# Altium integrated library NSC Interface.IntLib: 481 symbols (part 6 of 16)
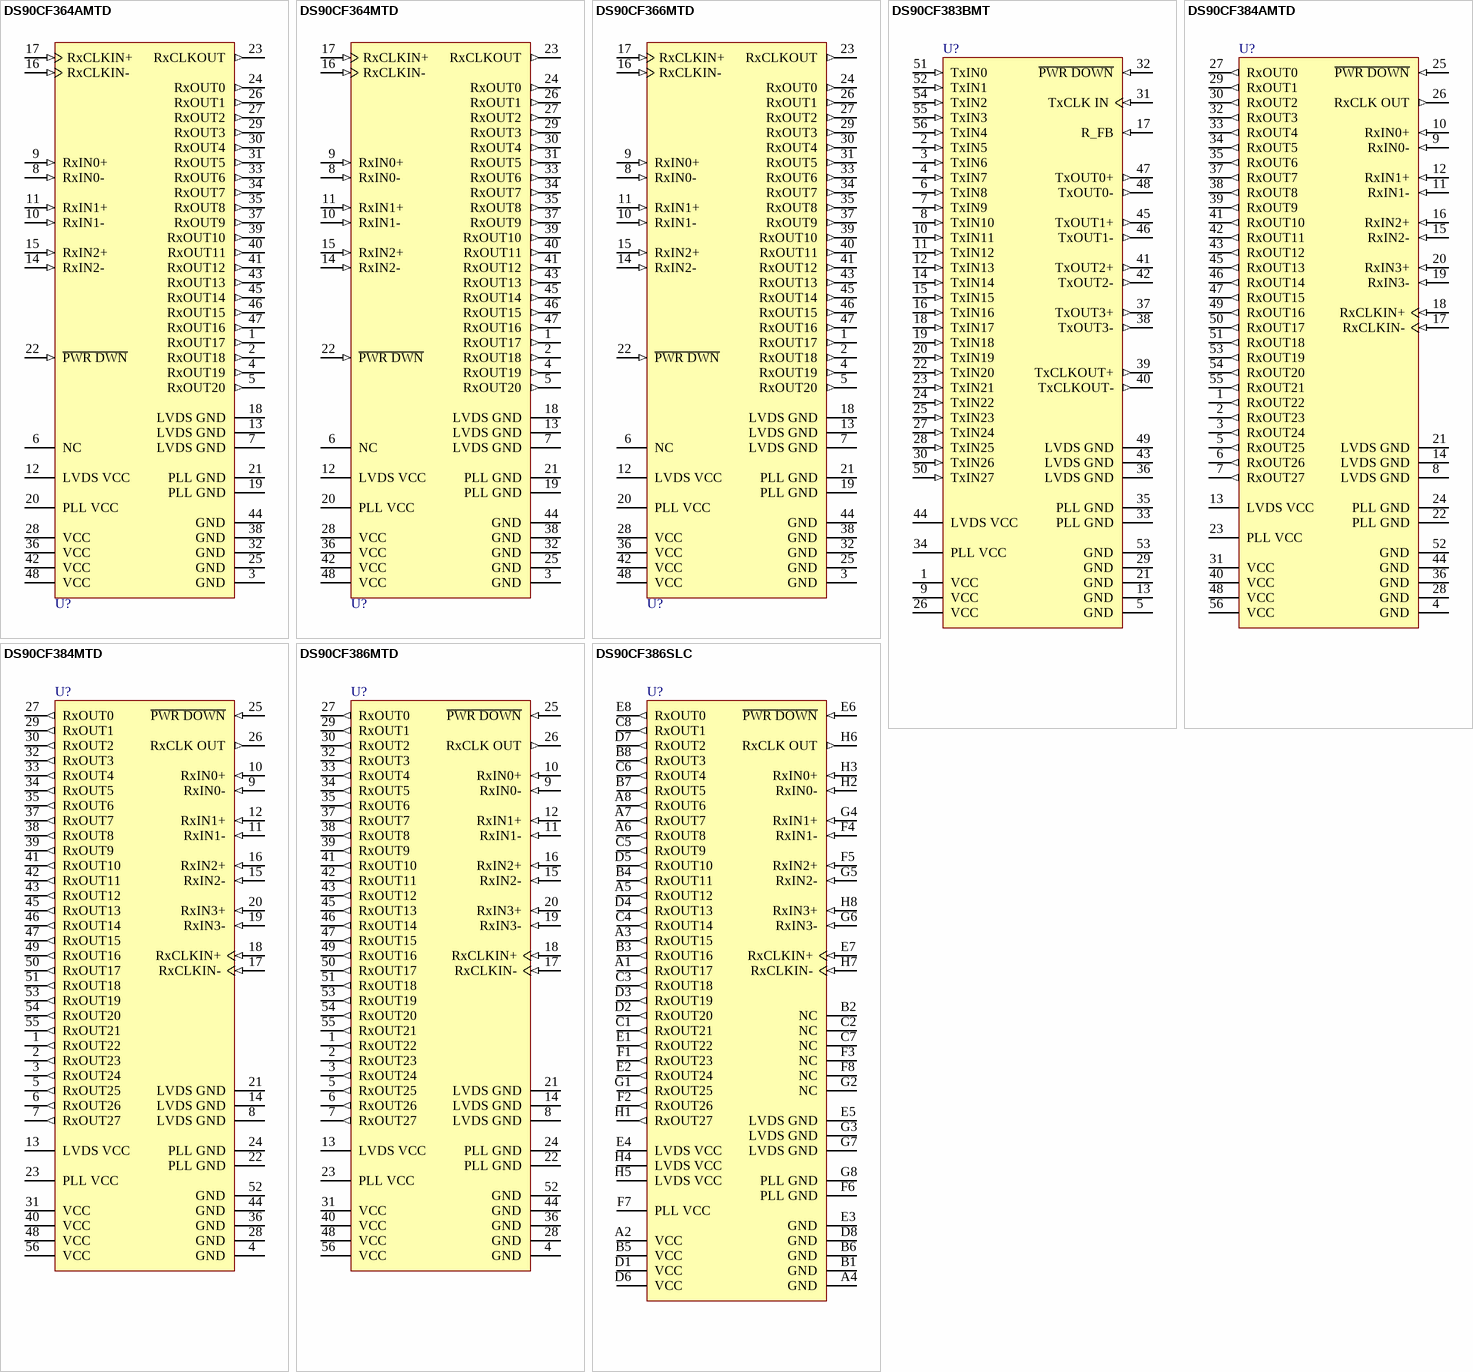
[diagram p45: symbols DS90CF364AMTD to DS90CF386SLC]

## DS90CF384AMTD
designator U?
+3.3V LVDS Receiver 24-Bit Flat Panel Display (FPD) Link - 65 MHz; PartNumber: DS90CF384AMTD; Manufacturer: National Semiconductor; CompType: Interface IC; PackageTopMarking: NS2ZXYTT*DS90CF384AMTD*BBBBB; Published: 4-Dec-2008; DatasheetVersion: Jul-2007; PackageVersion: revD, Apr-2003; PackageReference: MTD56; Publisher: Altium Limited; PackageDescription: Molded TSSOP, Jedec, 14 x 6.1 x 0.9mm Body, 56 Lead, 0.50mm Pitch; RoHS: O; PinCount: 56; DigiKeyPartNumber: DS90CF384AMTD-ND; Code_IPC: TSSOP50P810-56; ComponentLink1Description: DS90CF384A Datasheet; ComponentLink1URL: http://www.national.com/ds/DS/DS90CF384A.pdf; ComponentLink2Description: DS90CF384A Web Page; ComponentLink2URL: http://www.national.com/pf/DS/DS90CF384A.html; ComponentLink3Description: MTD56 Package Page; ComponentLink3URL: http://www.national.com/packaging/folders/mtd56.html
footprint MTD56_N (TSSOP, 56-Leads, Body 14x6.1mm, Pitch 0.5mm, IPC Medium Density)
footprint MTD56_L (TSSOP, 56-Leads, Body 14x6.1mm, Pitch 0.5mm, IPC High Density)
footprint MTD56_M (TSSOP, 56-Leads, Body 14x6.1mm, Pitch 0.5mm, IPC Low Density)
pins: 1 RxOUT22 (out), 2 RxOUT23 (out), 3 RxOUT24 (out), 4 GND (power), 5 RxOUT25 (out), 6 RxOUT26 (out), 7 RxOUT27 (out), 8 LVDS GND (power), 9 RxIN0- (in), 10 RxIN0+ (in), 11 RxIN1- (in), 12 RxIN1+ (in), 13 LVDS VCC (power), 14 LVDS GND (power), 15 RxIN2- (in), 16 RxIN2+ (in), 17 RxCLKIN- (in), 18 RxCLKIN+ (in), 19 RxIN3- (in), 20 RxIN3+ (in), 21 LVDS GND (power), 22 PLL GND (power), 23 PLL VCC (power), 24 PLL GND (power), 25 ~{PWR DOWN} (in), 26 RxCLK OUT (out), 27 RxOUT0 (out), 28 GND (power), 29 RxOUT1 (out), 30 RxOUT2 (out), 31 VCC (power), 32 RxOUT3 (out), 33 RxOUT4 (out), 34 RxOUT5 (out), 35 RxOUT6 (out), 36 GND (power), 37 RxOUT7 (out), 38 RxOUT8 (out), 39 RxOUT9 (out), 40 VCC (power), 41 RxOUT10 (out), 42 RxOUT11 (out), 43 RxOUT12 (out), 44 GND (power), 45 RxOUT13 (out), 46 RxOUT14 (out), 47 RxOUT15 (out), 48 VCC (power), 49 RxOUT16 (out), 50 RxOUT17 (out), 51 RxOUT18 (out), 52 GND (power), 53 RxOUT19 (out), 54 RxOUT20 (out), 55 RxOUT21 (out), 56 VCC (power)

## DS90CF384MTD
designator U?
+3.3V LVDS Receiver 24-Bit Flat Panel Display (FPD) Link - 65 MHz; PartNumber: DS90CF384MTD; Manufacturer: National Semiconductor; CompType: Interface IC; PackageTopMarking: NS2ZXYTT*DS90CF384MTD*BBBBB; Published: 4-Dec-2008; DatasheetVersion: Nov-2000; PackageVersion: revD, Apr-2003; PackageReference: MTD56; Publisher: Altium Limited; PackageDescription: Molded TSSOP, Jedec, 14 x 6.1 x 0.9mm Body, 56 Lead, 0.50mm Pitch; RoHS: O; PinCount: 56; DigiKeyPartNumber: DS90CF384MTD-ND; Code_IPC: TSSOP50P810-56; ComponentLink1Description: DS90CF384 Datasheet; ComponentLink1URL: http://www.national.com/ds/DS/DS90CF384.pdf; ComponentLink2Description: DS90CF384 Web Page; ComponentLink2URL: http://www.national.com/pf/DS/DS90CF384.html; ComponentLink3Description: MTD56 Package Page; ComponentLink3URL: http://www.national.com/packaging/folders/mtd56.html
footprint MTD56_N (TSSOP, 56-Leads, Body 14x6.1mm, Pitch 0.5mm, IPC Medium Density)
footprint MTD56_L (TSSOP, 56-Leads, Body 14x6.1mm, Pitch 0.5mm, IPC High Density)
footprint MTD56_M (TSSOP, 56-Leads, Body 14x6.1mm, Pitch 0.5mm, IPC Low Density)
pins: 1 RxOUT22 (out), 2 RxOUT23 (out), 3 RxOUT24 (out), 4 GND (power), 5 RxOUT25 (out), 6 RxOUT26 (out), 7 RxOUT27 (out), 8 LVDS GND (power), 9 RxIN0- (in), 10 RxIN0+ (in), 11 RxIN1- (in), 12 RxIN1+ (in), 13 LVDS VCC (power), 14 LVDS GND (power), 15 RxIN2- (in), 16 RxIN2+ (in), 17 RxCLKIN- (in), 18 RxCLKIN+ (in), 19 RxIN3- (in), 20 RxIN3+ (in), 21 LVDS GND (power), 22 PLL GND (power), 23 PLL VCC (power), 24 PLL GND (power), 25 ~{PWR DOWN} (in), 26 RxCLK OUT (out), 27 RxOUT0 (out), 28 GND (power), 29 RxOUT1 (out), 30 RxOUT2 (out), 31 VCC (power), 32 RxOUT3 (out), 33 RxOUT4 (out), 34 RxOUT5 (out), 35 RxOUT6 (out), 36 GND (power), 37 RxOUT7 (out), 38 RxOUT8 (out), 39 RxOUT9 (out), 40 VCC (power), 41 RxOUT10 (out), 42 RxOUT11 (out), 43 RxOUT12 (out), 44 GND (power), 45 RxOUT13 (out), 46 RxOUT14 (out), 47 RxOUT15 (out), 48 VCC (power), 49 RxOUT16 (out), 50 RxOUT17 (out), 51 RxOUT18 (out), 52 GND (power), 53 RxOUT19 (out), 54 RxOUT20 (out), 55 RxOUT21 (out), 56 VCC (power)

## DS90CF386MTD
designator U?
+3.3V LVDS Receiver 24-Bit Flat Panel Display (FPD) Link - 85 MHz; PartNumber: DS90CF386MTD; Manufacturer: National Semiconductor; CompType: Interface IC; PackageTopMarking: NSUZXYTT*DS90CF386MTD*BBBBB; Published: 4-Dec-2008; DatasheetVersion: Feb-2006; PackageVersion: revD, Apr-2003; PackageReference: MTD56; Publisher: Altium Limited; PackageDescription: Molded TSSOP, Jedec, 14 x 6.1 x 0.9mm Body, 56 Lead, 0.50mm Pitch; RoHS: O; PinCount: 56; DigiKeyPartNumber: DS90CF386MTD-ND; Code_IPC: TSSOP50P810-56; ComponentLink1Description: DS90CF386 Datasheet; ComponentLink1URL: http://www.national.com/ds/DS/DS90CF386.pdf; ComponentLink2Description: DS90CF386 Web Page; ComponentLink2URL: http://www.national.com/pf/DS/DS90CF386.html; ComponentLink3Description: MTD56 Package Page; ComponentLink3URL: http://www.national.com/packaging/folders/mtd56.html
footprint MTD56_N (TSSOP, 56-Leads, Body 14x6.1mm, Pitch 0.5mm, IPC Medium Density)
footprint MTD56_L (TSSOP, 56-Leads, Body 14x6.1mm, Pitch 0.5mm, IPC High Density)
footprint MTD56_M (TSSOP, 56-Leads, Body 14x6.1mm, Pitch 0.5mm, IPC Low Density)
pins: 1 RxOUT22 (out), 2 RxOUT23 (out), 3 RxOUT24 (out), 4 GND (power), 5 RxOUT25 (out), 6 RxOUT26 (out), 7 RxOUT27 (out), 8 LVDS GND (power), 9 RxIN0- (in), 10 RxIN0+ (in), 11 RxIN1- (in), 12 RxIN1+ (in), 13 LVDS VCC (power), 14 LVDS GND (power), 15 RxIN2- (in), 16 RxIN2+ (in), 17 RxCLKIN- (in), 18 RxCLKIN+ (in), 19 RxIN3- (in), 20 RxIN3+ (in), 21 LVDS GND (power), 22 PLL GND (power), 23 PLL VCC (power), 24 PLL GND (power), 25 ~{PWR DOWN} (in), 26 RxCLK OUT (out), 27 RxOUT0 (out), 28 GND (power), 29 RxOUT1 (out), 30 RxOUT2 (out), 31 VCC (power), 32 RxOUT3 (out), 33 RxOUT4 (out), 34 RxOUT5 (out), 35 RxOUT6 (out), 36 GND (power), 37 RxOUT7 (out), 38 RxOUT8 (out), 39 RxOUT9 (out), 40 VCC (power), 41 RxOUT10 (out), 42 RxOUT11 (out), 43 RxOUT12 (out), 44 GND (power), 45 RxOUT13 (out), 46 RxOUT14 (out), 47 RxOUT15 (out), 48 VCC (power), 49 RxOUT16 (out), 50 RxOUT17 (out), 51 RxOUT18 (out), 52 GND (power), 53 RxOUT19 (out), 54 RxOUT20 (out), 55 RxOUT21 (out), 56 VCC (power)

## DS90CF386SLC
designator U?
+3.3V LVDS Receiver 24-Bit Flat Panel Display (FPD) Link - 85 MHz; PartNumber: DS90CF386SLC; Manufacturer: National Semiconductor; CompType: Interface IC; PackageTopMarking: NSUZXYTT*DS90CF386*SLC*BBBBB; Published: 4-Dec-2008; DatasheetVersion: Feb-2006; PackageVersion: revC, Jan, 2003; PackageReference: SLC64A; Publisher: Altium Limited; PackageDescription: FBGA, Plastic, Laminated, 8 x 8 x 1.4mm, 64 Ball, 0.8mm Pitch; RoHS: Y; PinCount: 64; DigiKeyPartNumber: DS90CF386SLC-ND; ComponentLink1Description: DS90CF386 Datasheet; ComponentLink1URL: http://www.national.com/ds/DS/DS90CF386.pdf; ComponentLink2Description: DS90CF386 Web Page; ComponentLink2URL: http://www.national.com/pf/DS/DS90CF386.html; ComponentLink3Description: SLC64A Package Page; ComponentLink3URL: http://www.national.com/packaging/folders/slc64a.html
footprint SLC64A (BGA, 64-Leads, Body 8x8mm, Pitch 0.8mm)
pins: A1 RxOUT17 (out), A2 VCC (power), A3 RxOUT15 (out), A4 GND (power), A5 RxOUT12 (out), A6 RxOUT8 (out), A7 RxOUT7 (out), A8 RxOUT6 (out), B1 GND (power), B2 NC, B3 RxOUT16 (out), B4 RxOUT11 (out), B5 VCC (power), B6 GND (power), B7 RxOUT5 (out), B8 RxOUT3 (out), C1 RxOUT21 (out), C2 NC, C3 RxOUT18 (out), C4 RxOUT14 (out), C5 RxOUT9 (out), C6 RxOUT4 (out), C7 NC, C8 RxOUT1 (out), D1 VCC (power), D2 RxOUT20 (out), D3 RxOUT19 (out), D4 RxOUT13 (out), D5 RxOUT10 (out), D6 VCC (power), D7 RxOUT2 (out), D8 GND (power), E1 RxOUT22 (out), E2 RxOUT24 (out), E3 GND (power), E4 LVDS VCC (power), E5 LVDS GND (power), E6 ~{PWR DOWN} (in), E7 RxCLKIN+ (in), E8 RxOUT0 (out), F1 RxOUT23 (out), F2 RxOUT26 (out), F3 NC, F4 RxIN1- (in), F5 RxIN2+ (in), F6 PLL GND (power), F7 PLL VCC (power), F8 NC, G1 RxOUT25 (out), G2 NC, G3 LVDS GND (power), G4 RxIN1+ (in), G5 RxIN2- (in), G6 RxIN3- (in), G7 LVDS GND (power), G8 PLL GND (power), H1 RxOUT27 (out), H2 RxIN0- (in), H3 RxIN0+ (in), H4 LVDS VCC (power), H5 LVDS VCC (power), H6 RxCLK OUT (out), H7 RxCLKIN- (in), H8 RxIN3+ (in)

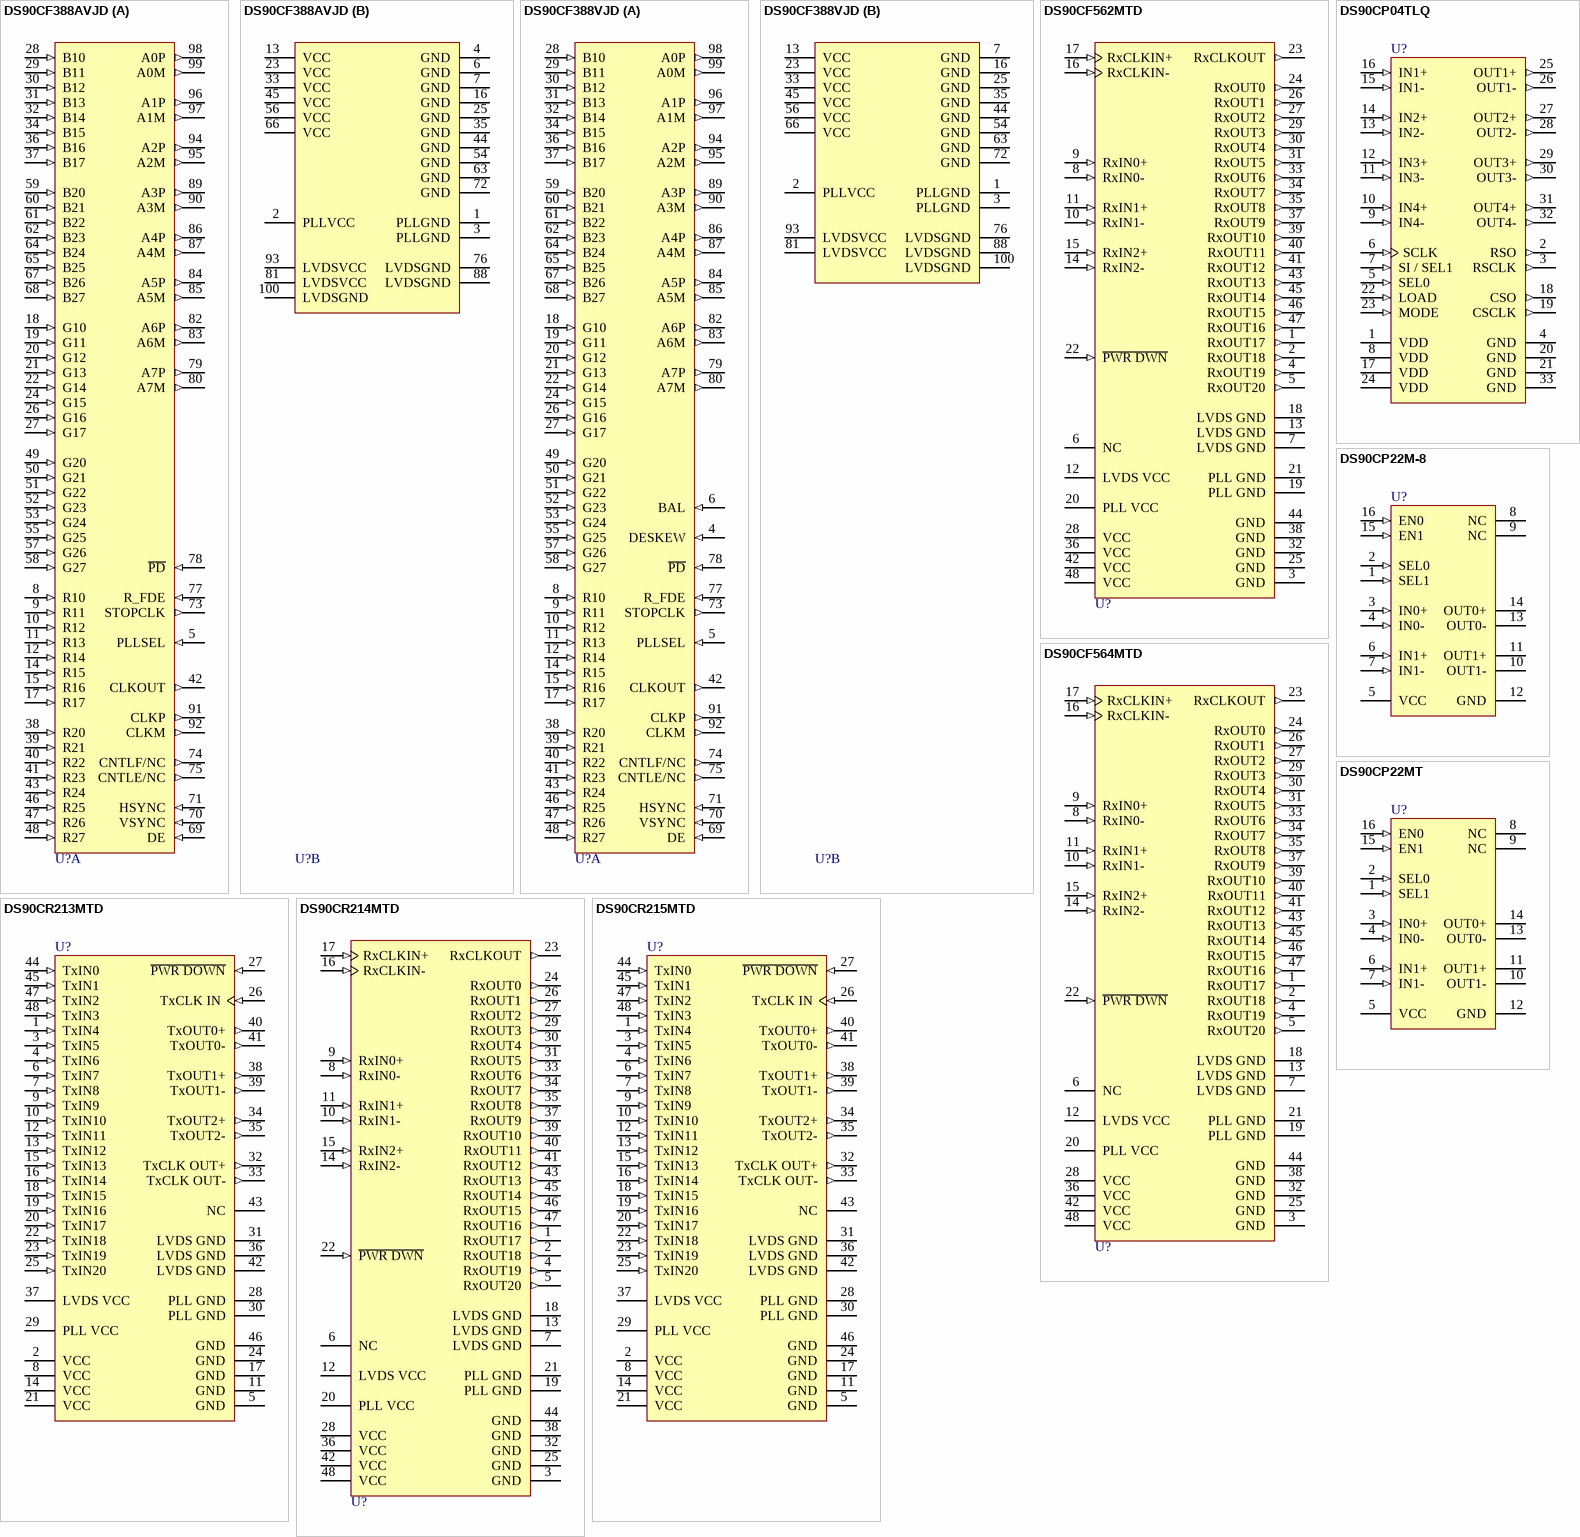
[diagram p15: symbols DS90CF388AVJD to DS90CR215MTD]

## DS90CF388AVJD
designator U?
Dual Pixel LVDS Display Interface / FPD-Link Receiver; PartNumber: DS90CF388AVJD; Manufacturer: National Semiconductor; CompType: Interface IC; PackageTopMarking: NS2ZXYYTT*DS90CF388AVJD*BBBBB; Published: 4-Dec-2008; DatasheetVersion: Feb-2006; PackageVersion: revC, May-2004; PackageReference: VJD100A; Publisher: Altium Limited; PackageDescription: TQFP, Jedec, Metric, 14 x 14 x 1.0mm, 100 Lead; RoHS: Y; PinCount: 100; DigiKeyPartNumber: DS90CF388AVJD-ND; Code_JEDEC: MS-026-AED; ComponentLink1Description: DS90CF388A Datasheet; ComponentLink1URL: http://www.national.com/ds/DS/DS90CF388A.pdf; ComponentLink2Description: DS90CF388A Web Page; ComponentLink2URL: http://www.national.com/pf/DS/DS90CF388A.html; ComponentLink3Description: VJD100A Package Page; ComponentLink3URL: http://www.national.com/packaging/folders/vjd100a.html
footprint VJD100A_N (Thin QFP, 100-Leads, Body 14x14mm, Pitch 0.5mm, IPC Medium Density)
footprint VJD100A_L (Thin QFP, 100-Leads, Body 14x14mm, Pitch 0.5mm, IPC High Density)
footprint VJD100A_M (Thin QFP, 100-Leads, Body 14x14mm, Pitch 0.5mm, IPC Low Density)
part A pins: 5 PLLSEL (in), 8 R10 (in), 9 R11 (in), 10 R12 (in), 11 R13 (in), 12 R14 (in), 14 R15 (in), 15 R16 (in), 17 R17 (in), 18 G10 (in), 19 G11 (in), 20 G12 (in), 21 G13 (in), 22 G14 (in), 24 G15 (in), 26 G16 (in), 27 G17 (in), 28 B10 (in), 29 B11 (in), 30 B12 (in), 31 B13 (in), 32 B14 (in), 34 B15 (in), 36 B16 (in), 37 B17 (in), 38 R20 (in), 39 R21 (in), 40 R22 (in), 41 R23 (in), 42 CLKOUT (out), 43 R24 (in), 46 R25 (in), 47 R26 (in), 48 R27 (in), 49 G20 (in), 50 G21 (in), 51 G22 (in), 52 G23 (in), 53 G24 (in), 55 G25 (in), 57 G26 (in), 58 G27 (in), 59 B20 (in), 60 B21 (in), 61 B22 (in), 62 B23 (in), 64 B24 (in), 65 B25 (in), 67 B26 (in), 68 B27 (in), 69 DE (in), 70 VSYNC (in), 71 HSYNC (in), 73 STOPCLK (out), 74 CNTLF/NC (out), 75 CNTLE/NC (out), 77 R_FDE (in), 78 ~{PD} (in), 79 A7P (out), 80 A7M (out), 82 A6P (out), 83 A6M (out), 84 A5P (out), 85 A5M (out), 86 A4P (out), 87 A4M (out), 89 A3P (out), 90 A3M (out), 91 CLKP (out), 92 CLKM (out), 94 A2P (out), 95 A2M (out), 96 A1P (out), 97 A1M (out), 98 A0P (out), 99 A0M (out)
part B pins: 1 PLLGND (power), 2 PLLVCC (power), 3 PLLGND (power), 4 GND (power), 6 GND (power), 7 GND (power), 13 VCC (power), 16 GND (power), 23 VCC (power), 25 GND (power), 33 VCC (power), 35 GND (power), 44 GND (power), 45 VCC (power), 54 GND (power), 56 VCC (power), 63 GND (power), 66 VCC (power), 72 GND (power), 76 LVDSGND (power), 81 LVDSVCC (power), 88 LVDSGND (power), 93 LVDSVCC (power), 100 LVDSGND (power)

## DS90CF388VJD
designator U?
+3.3V Dual Pixel LVDS Display Interface (LDI)-SVGA/QXGA; PartNumber: DS90CF388VJD; Manufacturer: National Semiconductor; CompType: Interface IC; PackageTopMarking: NS2ZXYYTT*DS90CF388VJD*BBBBB; Published: 4-Dec-2008; DatasheetVersion: Feb-2006; PackageVersion: revC, May-2004; PackageReference: VJD100A; Publisher: Altium Limited; PackageDescription: TQFP, Jedec, Metric, 14 x 14 x 1.0mm, 100 Lead; RoHS: O; PinCount: 100; DigiKeyPartNumber: DS90CF388VJD-ND; Code_JEDEC: MS-026-AED; ComponentLink1Description: DS90CF388 Datasheet; ComponentLink1URL: http://www.national.com/ds/DS/DS90CF388.pdf; ComponentLink2Description: DS90CF388 Web Page; ComponentLink2URL: http://www.national.com/pf/DS/DS90CF388.html; ComponentLink3Description: VJD100A Package Page; ComponentLink3URL: http://www.national.com/packaging/folders/vjd100a.html
footprint VJD100A_N (Thin QFP, 100-Leads, Body 14x14mm, Pitch 0.5mm, IPC Medium Density)
footprint VJD100A_L (Thin QFP, 100-Leads, Body 14x14mm, Pitch 0.5mm, IPC High Density)
footprint VJD100A_M (Thin QFP, 100-Leads, Body 14x14mm, Pitch 0.5mm, IPC Low Density)
part A pins: 4 DESKEW (in), 5 PLLSEL (in), 6 BAL (in), 8 R10 (in), 9 R11 (in), 10 R12 (in), 11 R13 (in), 12 R14 (in), 14 R15 (in), 15 R16 (in), 17 R17 (in), 18 G10 (in), 19 G11 (in), 20 G12 (in), 21 G13 (in), 22 G14 (in), 24 G15 (in), 26 G16 (in), 27 G17 (in), 28 B10 (in), 29 B11 (in), 30 B12 (in), 31 B13 (in), 32 B14 (in), 34 B15 (in), 36 B16 (in), 37 B17 (in), 38 R20 (in), 39 R21 (in), 40 R22 (in), 41 R23 (in), 42 CLKOUT (out), 43 R24 (in), 46 R25 (in), 47 R26 (in), 48 R27 (in), 49 G20 (in), 50 G21 (in), 51 G22 (in), 52 G23 (in), 53 G24 (in), 55 G25 (in), 57 G26 (in), 58 G27 (in), 59 B20 (in), 60 B21 (in), 61 B22 (in), 62 B23 (in), 64 B24 (in), 65 B25 (in), 67 B26 (in), 68 B27 (in), 69 DE (in), 70 VSYNC (in), 71 HSYNC (in), 73 STOPCLK (out), 74 CNTLF/NC (out), 75 CNTLE/NC (out), 77 R_FDE (in), 78 ~{PD} (in), 79 A7P (out), 80 A7M (out), 82 A6P (out), 83 A6M (out), 84 A5P (out), 85 A5M (out), 86 A4P (out), 87 A4M (out), 89 A3P (out), 90 A3M (out), 91 CLKP (out), 92 CLKM (out), 94 A2P (out), 95 A2M (out), 96 A1P (out), 97 A1M (out), 98 A0P (out), 99 A0M (out)
part B pins: 1 PLLGND (power), 2 PLLVCC (power), 3 PLLGND (power), 7 GND (power), 13 VCC (power), 16 GND (power), 23 VCC (power), 25 GND (power), 33 VCC (power), 35 GND (power), 44 GND (power), 45 VCC (power), 54 GND (power), 56 VCC (power), 63 GND (power), 66 VCC (power), 72 GND (power), 76 LVDSGND (power), 81 LVDSVCC (power), 88 LVDSGND (power), 93 LVDSVCC (power), 100 LVDSGND (power)

## DS90CF562MTD
designator U?
LVDS 18-Bit Color Flat Panel Display (FPD) Link; PartNumber: DS90CF562MTD; Manufacturer: National Semiconductor; CompType: Interface IC; PackageTopMarking: NSUZXYTT*DS90CF562MTD*BBBBB; Published: 4-Dec-2008; DatasheetVersion: May-1997; PackageVersion: revE, Apr-2003; PackageReference: MTD48; Publisher: Altium Limited; PackageDescription: Molded TSSOP, Jedec, 12.5 x 6.1 x 0.9mm Body, 48 Lead, 0.50mm Pitch; RoHS: O; PinCount: 48; DigiKeyPartNumber: DS90CF562MTD-ND; Code_JEDEC: MO-153-ED; ComponentLink1Description: DS90CF562 Datasheet; ComponentLink1URL: http://www.national.com/ds/DS/DS90CF562.pdf; ComponentLink2Description: DS90CF562 Web Page; ComponentLink2URL: http://www.national.com/pf/DS/DS90CF562.html; ComponentLink3Description: MTD48 Package Page; ComponentLink3URL: http://www.national.com/packaging/folders/mtd48.html
footprint MTD48_N (TSSOP, 48-Leads, Body 12.5x6.1mm, Pitch 0.5mm, IPC Medium Density)
footprint MTD48_L (TSSOP, 48-Leads, Body 12.5x6.1mm, Pitch 0.5mm, IPC High Density)
footprint MTD48_M (TSSOP, 48-Leads, Body 12.5x6.1mm, Pitch 0.5mm, IPC Low Density)
pins: 1 RxOUT17 (out), 2 RxOUT18 (out), 3 GND (power), 4 RxOUT19 (out), 5 RxOUT20 (out), 6 NC, 7 LVDS GND (power), 8 RxIN0- (in), 9 RxIN0+ (in), 10 RxIN1- (in), 11 RxIN1+ (in), 12 LVDS VCC (power), 13 LVDS GND (power), 14 RxIN2- (in), 15 RxIN2+ (in), 16 RxCLKIN- (in), 17 RxCLKIN+ (in), 18 LVDS GND (power), 19 PLL GND (power), 20 PLL VCC (power), 21 PLL GND (power), 22 ~{PWR DWN} (in), 23 RxCLKOUT (out), 24 RxOUT0 (out), 25 GND (power), 26 RxOUT1 (out), 27 RxOUT2 (out), 28 VCC (power), 29 RxOUT3 (out), 30 RxOUT4 (out), 31 RxOUT5 (out), 32 GND (power), 33 RxOUT6 (out), 34 RxOUT7 (out), 35 RxOUT8 (out), 36 VCC (power), 37 RxOUT9 (out), 38 GND (power), 39 RxOUT10 (out), 40 RxOUT11 (out), 41 RxOUT12 (out), 42 VCC (power), 43 RxOUT13 (out), 44 GND (power), 45 RxOUT14 (out), 46 RxOUT15 (out), 47 RxOUT16 (out), 48 VCC (power)

## DS90CF564MTD
designator U?
LVDS 18-Bit Color Flat Panel Display (FPD) Link - 65 MHz; PartNumber: DS90CF564MTD; Manufacturer: National Semiconductor; CompType: Interface IC; PackageTopMarking: NSUZXYTT*DS90CF564MTD*BBBBB; Published: 4-Dec-2008; DatasheetVersion: Jul-1997; PackageVersion: revE, Apr-2003; PackageReference: MTD48; Publisher: Altium Limited; PackageDescription: Molded TSSOP, Jedec, 12.5 x 6.1 x 0.9mm Body, 48 Lead, 0.50mm Pitch; RoHS: Y; PinCount: 48; DigiKeyPartNumber: DS90CF564MTD-ND; Code_JEDEC: MO-153-ED; ComponentLink1Description: DS90CF564 Datasheet; ComponentLink1URL: http://www.national.com/ds/DS/DS90CF564.pdf; ComponentLink2Description: DS90CF564 Web Page; ComponentLink2URL: http://www.national.com/pf/DS/DS90CF564.html; ComponentLink3Description: MTD48 Package Page; ComponentLink3URL: http://www.national.com/packaging/folders/mtd48.html
footprint MTD48_N (TSSOP, 48-Leads, Body 12.5x6.1mm, Pitch 0.5mm, IPC Medium Density)
footprint MTD48_L (TSSOP, 48-Leads, Body 12.5x6.1mm, Pitch 0.5mm, IPC High Density)
footprint MTD48_M (TSSOP, 48-Leads, Body 12.5x6.1mm, Pitch 0.5mm, IPC Low Density)
pins: 1 RxOUT17 (out), 2 RxOUT18 (out), 3 GND (power), 4 RxOUT19 (out), 5 RxOUT20 (out), 6 NC, 7 LVDS GND (power), 8 RxIN0- (in), 9 RxIN0+ (in), 10 RxIN1- (in), 11 RxIN1+ (in), 12 LVDS VCC (power), 13 LVDS GND (power), 14 RxIN2- (in), 15 RxIN2+ (in), 16 RxCLKIN- (in), 17 RxCLKIN+ (in), 18 LVDS GND (power), 19 PLL GND (power), 20 PLL VCC (power), 21 PLL GND (power), 22 ~{PWR DWN} (in), 23 RxCLKOUT (out), 24 RxOUT0 (out), 25 GND (power), 26 RxOUT1 (out), 27 RxOUT2 (out), 28 VCC (power), 29 RxOUT3 (out), 30 RxOUT4 (out), 31 RxOUT5 (out), 32 GND (power), 33 RxOUT6 (out), 34 RxOUT7 (out), 35 RxOUT8 (out), 36 VCC (power), 37 RxOUT9 (out), 38 GND (power), 39 RxOUT10 (out), 40 RxOUT11 (out), 41 RxOUT12 (out), 42 VCC (power), 43 RxOUT13 (out), 44 GND (power), 45 RxOUT14 (out), 46 RxOUT15 (out), 47 RxOUT16 (out), 48 VCC (power)

## DS90CP04TLQ
designator U?
1.5 Gbps 4x4 LVDS Crosspoint Switch; PartNumber: DS90CP04TLQ; Manufacturer: National Semiconductor; CompType: Interface IC; PackageTopMarking: NS*UZXYTT*90CP04T; Published: 4-Dec-2008; DatasheetVersion: Dec-2007; PackageVersion: revA, Feb-2001; PackageReference: LQA32A; Publisher: Altium Limited; PackageDescription: LLP, Plastic, Quad, 6 x 6 x 0.8mm Body, 32 Lead, 0.5mm Pitch; RoHS: O; PinCount: 32; DigiKeyPartNumber: DS90CP04TLQTR-ND; ComponentLink1Description: DS90CP04 Datasheet; ComponentLink1URL: http://www.national.com/ds/DS/DS90CP04.pdf; ComponentLink2Description: DS90CP04 Web Page; ComponentLink2URL: http://www.national.com/pf/DS/DS90CP04.html; ComponentLink3Description: LQA32A Package Page; ComponentLink3URL: http://www.national.com/packaging/folders/lqa32a.html
footprint LQA32A (PQFN, 32-Leads, Body 6x6mm, Pitch 0.5mm, NSC Recommended)
pins: 1 VDD (power), 2 RSO (out), 3 RSCLK (out), 4 GND (power), 5 SEL0 (in), 6 SCLK (in), 7 SI / SEL1 (in), 8 VDD (power), 9 IN4- (in), 10 IN4+ (in), 11 IN3- (in), 12 IN3+ (in), 13 IN2- (in), 14 IN2+ (in), 15 IN1- (in), 16 IN1+ (in), 17 VDD (power), 18 CSO (out), 19 CSCLK (out), 20 GND (power), 21 GND (power), 22 LOAD (in), 23 MODE (in), 24 VDD (power), 25 OUT1+ (out), 26 OUT1- (out), 27 OUT2+ (out), 28 OUT2- (out), 29 OUT3+ (out), 30 OUT3- (out), 31 OUT4+ (out), 32 OUT4- (out), 33 GND (power)

## DS90CP22M-8
designator U?
800 Mbps 2x2 LVDS Crosspoint Switch; PartNumber: DS90CP22M-8; Manufacturer: National Semiconductor; CompType: Interface IC; PackageTopMarking: NSUZXYTT*DS90CP22M*-8; Published: 4-Dec-2008; DatasheetVersion: Dec-2007; PackageVersion: revJ, Aug-1995; PackageReference: M16A; Publisher: Altium Limited; PackageDescription: Molded Package, S.O., .150in Wide, 16 Lead; RoHS: O; PinCount: 16; DigiKeyPartNumber: DS90CP22M-8-ND; Code_JEDEC: MS-012-AC; Code_IPC: SOIC127P600-16; ComponentLink1Description: DS90CP22 Datasheet; ComponentLink1URL: http://www.national.com/ds/DS/DS90CP22.pdf; ComponentLink2Description: DS90CP22 Web Page; ComponentLink2URL: http://www.national.com/pf/DS/DS90CP22.html; ComponentLink3Description: M16A Package Page; ComponentLink3URL: http://www.national.com/packaging/folders/m16a.html
footprint M16A_N (SOIC, 16-Leads, Body 9.9x3.9mm, Pitch 1.27mm, IPC Medium Density)
footprint M16A_L (SOIC, 16-Leads, Body 9.9x3.9mm, Pitch 1.27mm, IPC High Density)
footprint M16A_M (SOIC, 16-Leads, Body 9.9x3.9mm, Pitch 1.27mm, IPC Low Density)
pins: 1 SEL1 (in), 2 SEL0 (in), 3 IN0+ (in), 4 IN0- (in), 5 VCC (power), 6 IN1+ (in), 7 IN1- (in), 8 NC, 9 NC, 10 OUT1- (hiz), 11 OUT1+ (hiz), 12 GND (power), 13 OUT0- (hiz), 14 OUT0+ (hiz), 15 EN1 (in), 16 EN0 (in)

## DS90CP22MT
designator U?
800 Mbps 2x2 LVDS Crosspoint Switch; PartNumber: DS90CP22MT; Manufacturer: National Semiconductor; CompType: Interface IC; PackageTopMarking: NSZXYTT*DS90CP*22MT; Published: 4-Dec-2008; DatasheetVersion: Dec-2007; PackageVersion: revD, Jun-2003; PackageReference: MTC16; Publisher: Altium Limited; PackageDescription: Molded TSSOP, Jedec, 5 x 4.4 x 0.9mm Body, 16 Lead, 0.65mm Pitch; RoHS: Y; PinCount: 16; DigiKeyPartNumber: DS90CP22MT-ND; Code_JEDEC: MO-153-AB; ComponentLink1Description: DS90CP22 Datasheet; ComponentLink1URL: http://www.national.com/ds/DS/DS90CP22.pdf; ComponentLink2Description: DS90CP22 Web Page; ComponentLink2URL: http://www.national.com/pf/DS/DS90CP22.html; ComponentLink3Description: MTC16 Package Page; ComponentLink3URL: http://www.national.com/packaging/folders/mtc16.html
footprint MTC16_N (TSOP, 16-Leads, Body 5x4.4mm, Pitch 0.65mm, IPC Medium Density)
footprint MTC16_L (TSOP, 16-Leads, Body 5x4.4mm, Pitch 0.65mm, IPC High Density)
footprint MTC16_M (TSOP, 16-Leads, Body 5x4.4mm, Pitch 0.65mm, IPC Low Density)
pins: 1 SEL1 (in), 2 SEL0 (in), 3 IN0+ (in), 4 IN0- (in), 5 VCC (power), 6 IN1+ (in), 7 IN1- (in), 8 NC, 9 NC, 10 OUT1- (hiz), 11 OUT1+ (hiz), 12 GND (power), 13 OUT0- (hiz), 14 OUT0+ (hiz), 15 EN1 (in), 16 EN0 (in)

## DS90CR213MTD
designator U?
21-Bit Channel Link - 66 MHz; PartNumber: DS90CR213MTD; Manufacturer: National Semiconductor; CompType: Interface IC; PackageTopMarking: NSUZXYTT*DS90CR213MTD*BBBBB; Published: 4-Dec-2008; DatasheetVersion: Aug-2005; PackageVersion: revE, Apr-2003; PackageReference: MTD48; Publisher: Altium Limited; PackageDescription: Molded TSSOP, Jedec, 12.5 x 6.1 x 0.9mm Body, 48 Lead, 0.50mm Pitch; RoHS: Y; PinCount: 48; DigiKeyPartNumber: DS90CR213MTD-ND; Code_JEDEC: MO-153-ED; ComponentLink1Description: DS90CR213 Datasheet; ComponentLink1URL: http://www.national.com/ds/DS/DS90CR213.pdf; ComponentLink2Description: DS90CR213 Web Page; ComponentLink2URL: http://www.national.com/pf/DS/DS90CR213.html; ComponentLink3Description: MTD48 Package Page; ComponentLink3URL: http://www.national.com/packaging/folders/mtd48.html
footprint MTD48_N (TSSOP, 48-Leads, Body 12.5x6.1mm, Pitch 0.5mm, IPC Medium Density)
footprint MTD48_L (TSSOP, 48-Leads, Body 12.5x6.1mm, Pitch 0.5mm, IPC High Density)
footprint MTD48_M (TSSOP, 48-Leads, Body 12.5x6.1mm, Pitch 0.5mm, IPC Low Density)
pins: 1 TxIN4 (in), 2 VCC (power), 3 TxIN5 (in), 4 TxIN6 (in), 5 GND (power), 6 TxIN7 (in), 7 TxIN8 (in), 8 VCC (power), 9 TxIN9 (in), 10 TxIN10 (in), 11 GND (power), 12 TxIN11 (in), 13 TxIN12 (in), 14 VCC (power), 15 TxIN13 (in), 16 TxIN14 (in), 17 GND (power), 18 TxIN15 (in), 19 TxIN16 (in), 20 TxIN17 (in), 21 VCC (power), 22 TxIN18 (in), 23 TxIN19 (in), 24 GND (power), 25 TxIN20 (in), 26 TxCLK IN (in), 27 ~{PWR DOWN} (in), 28 PLL GND (power), 29 PLL VCC (power), 30 PLL GND (power), 31 LVDS GND (power), 32 TxCLK OUT+ (out), 33 TxCLK OUT- (out), 34 TxOUT2+ (out), 35 TxOUT2- (out), 36 LVDS GND (power), 37 LVDS VCC (power), 38 TxOUT1+ (out), 39 TxOUT1- (out), 40 TxOUT0+ (out), 41 TxOUT0- (out), 42 LVDS GND (power), 43 NC, 44 TxIN0 (in), 45 TxIN1 (in), 46 GND (power), 47 TxIN2 (in), 48 TxIN3 (in)

## DS90CR214MTD
designator U?
21-Bit Channel Link - 66 MHz; PartNumber: DS90CR214MTD; Manufacturer: National Semiconductor; CompType: Interface IC; PackageTopMarking: NSUZXYTT*DS90CR214MTD*BBBBB; Published: 4-Dec-2008; DatasheetVersion: Aug-2005; PackageVersion: revE, Apr-2003; PackageReference: MTD48; Publisher: Altium Limited; PackageDescription: Molded TSSOP, Jedec, 12.5 x 6.1 x 0.9mm Body, 48 Lead, 0.50mm Pitch; RoHS: Y; PinCount: 48; DigiKeyPartNumber: DS90CR214MTD-ND; Code_JEDEC: MO-153-ED; ComponentLink1Description: DS90CR214 Datasheet; ComponentLink1URL: http://www.national.com/ds/DS/DS90CR214.pdf; ComponentLink2Description: DS90CR214 Web Page; ComponentLink2URL: http://www.national.com/pf/DS/DS90CR214.html; ComponentLink3Description: MTD48 Package Page; ComponentLink3URL: http://www.national.com/packaging/folders/mtd48.html
footprint MTD48_N (TSSOP, 48-Leads, Body 12.5x6.1mm, Pitch 0.5mm, IPC Medium Density)
footprint MTD48_L (TSSOP, 48-Leads, Body 12.5x6.1mm, Pitch 0.5mm, IPC High Density)
footprint MTD48_M (TSSOP, 48-Leads, Body 12.5x6.1mm, Pitch 0.5mm, IPC Low Density)
pins: 1 RxOUT17 (out), 2 RxOUT18 (out), 3 GND (power), 4 RxOUT19 (out), 5 RxOUT20 (out), 6 NC, 7 LVDS GND (power), 8 RxIN0- (in), 9 RxIN0+ (in), 10 RxIN1- (in), 11 RxIN1+ (in), 12 LVDS VCC (power), 13 LVDS GND (power), 14 RxIN2- (in), 15 RxIN2+ (in), 16 RxCLKIN- (in), 17 RxCLKIN+ (in), 18 LVDS GND (power), 19 PLL GND (power), 20 PLL VCC (power), 21 PLL GND (power), 22 ~{PWR DWN} (in), 23 RxCLKOUT (out), 24 RxOUT0 (out), 25 GND (power), 26 RxOUT1 (out), 27 RxOUT2 (out), 28 VCC (power), 29 RxOUT3 (out), 30 RxOUT4 (out), 31 RxOUT5 (out), 32 GND (power), 33 RxOUT6 (out), 34 RxOUT7 (out), 35 RxOUT8 (out), 36 VCC (power), 37 RxOUT9 (out), 38 GND (power), 39 RxOUT10 (out), 40 RxOUT11 (out), 41 RxOUT12 (out), 42 VCC (power), 43 RxOUT13 (out), 44 GND (power), 45 RxOUT14 (out), 46 RxOUT15 (out), 47 RxOUT16 (out), 48 VCC (power)

## DS90CR215MTD
designator U?
+3.3V Rising Edge Data Strobe LVDS 21-Bit Channel Link - 66 MHz; PartNumber: DS90CR215MTD; Manufacturer: National Semiconductor; CompType: Interface IC; PackageTopMarking: NS2ZXYTT*DS90CR215MTD*BBBBB; Published: 4-Dec-2008; DatasheetVersion: Aug-2005; PackageVersion: revE, Apr-2003; PackageReference: MTD48; Publisher: Altium Limited; PackageDescription: Molded TSSOP, Jedec, 12.5 x 6.1 x 0.9mm Body, 48 Lead, 0.50mm Pitch; RoHS: O; PinCount: 48; DigiKeyPartNumber: DS90CR215MTD-ND; Code_JEDEC: MO-153-ED; ComponentLink1Description: DS90CR215 Datasheet; ComponentLink1URL: http://www.national.com/ds/DS/DS90CR215.pdf; ComponentLink2Description: DS90CR215 Web Page; ComponentLink2URL: http://www.national.com/pf/DS/DS90CR215.html; ComponentLink3Description: MTD48 Package Page; ComponentLink3URL: http://www.national.com/packaging/folders/mtd48.html
footprint MTD48_N (TSSOP, 48-Leads, Body 12.5x6.1mm, Pitch 0.5mm, IPC Medium Density)
footprint MTD48_L (TSSOP, 48-Leads, Body 12.5x6.1mm, Pitch 0.5mm, IPC High Density)
footprint MTD48_M (TSSOP, 48-Leads, Body 12.5x6.1mm, Pitch 0.5mm, IPC Low Density)
pins: 1 TxIN4 (in), 2 VCC (power), 3 TxIN5 (in), 4 TxIN6 (in), 5 GND (power), 6 TxIN7 (in), 7 TxIN8 (in), 8 VCC (power), 9 TxIN9 (in), 10 TxIN10 (in), 11 GND (power), 12 TxIN11 (in), 13 TxIN12 (in), 14 VCC (power), 15 TxIN13 (in), 16 TxIN14 (in), 17 GND (power), 18 TxIN15 (in), 19 TxIN16 (in), 20 TxIN17 (in), 21 VCC (power), 22 TxIN18 (in), 23 TxIN19 (in), 24 GND (power), 25 TxIN20 (in), 26 TxCLK IN (in), 27 ~{PWR DOWN} (in), 28 PLL GND (power), 29 PLL VCC (power), 30 PLL GND (power), 31 LVDS GND (power), 32 TxCLK OUT+ (out), 33 TxCLK OUT- (out), 34 TxOUT2+ (out), 35 TxOUT2- (out), 36 LVDS GND (power), 37 LVDS VCC (power), 38 TxOUT1+ (out), 39 TxOUT1- (out), 40 TxOUT0+ (out), 41 TxOUT0- (out), 42 LVDS GND (power), 43 NC, 44 TxIN0 (in), 45 TxIN1 (in), 46 GND (power), 47 TxIN2 (in), 48 TxIN3 (in)

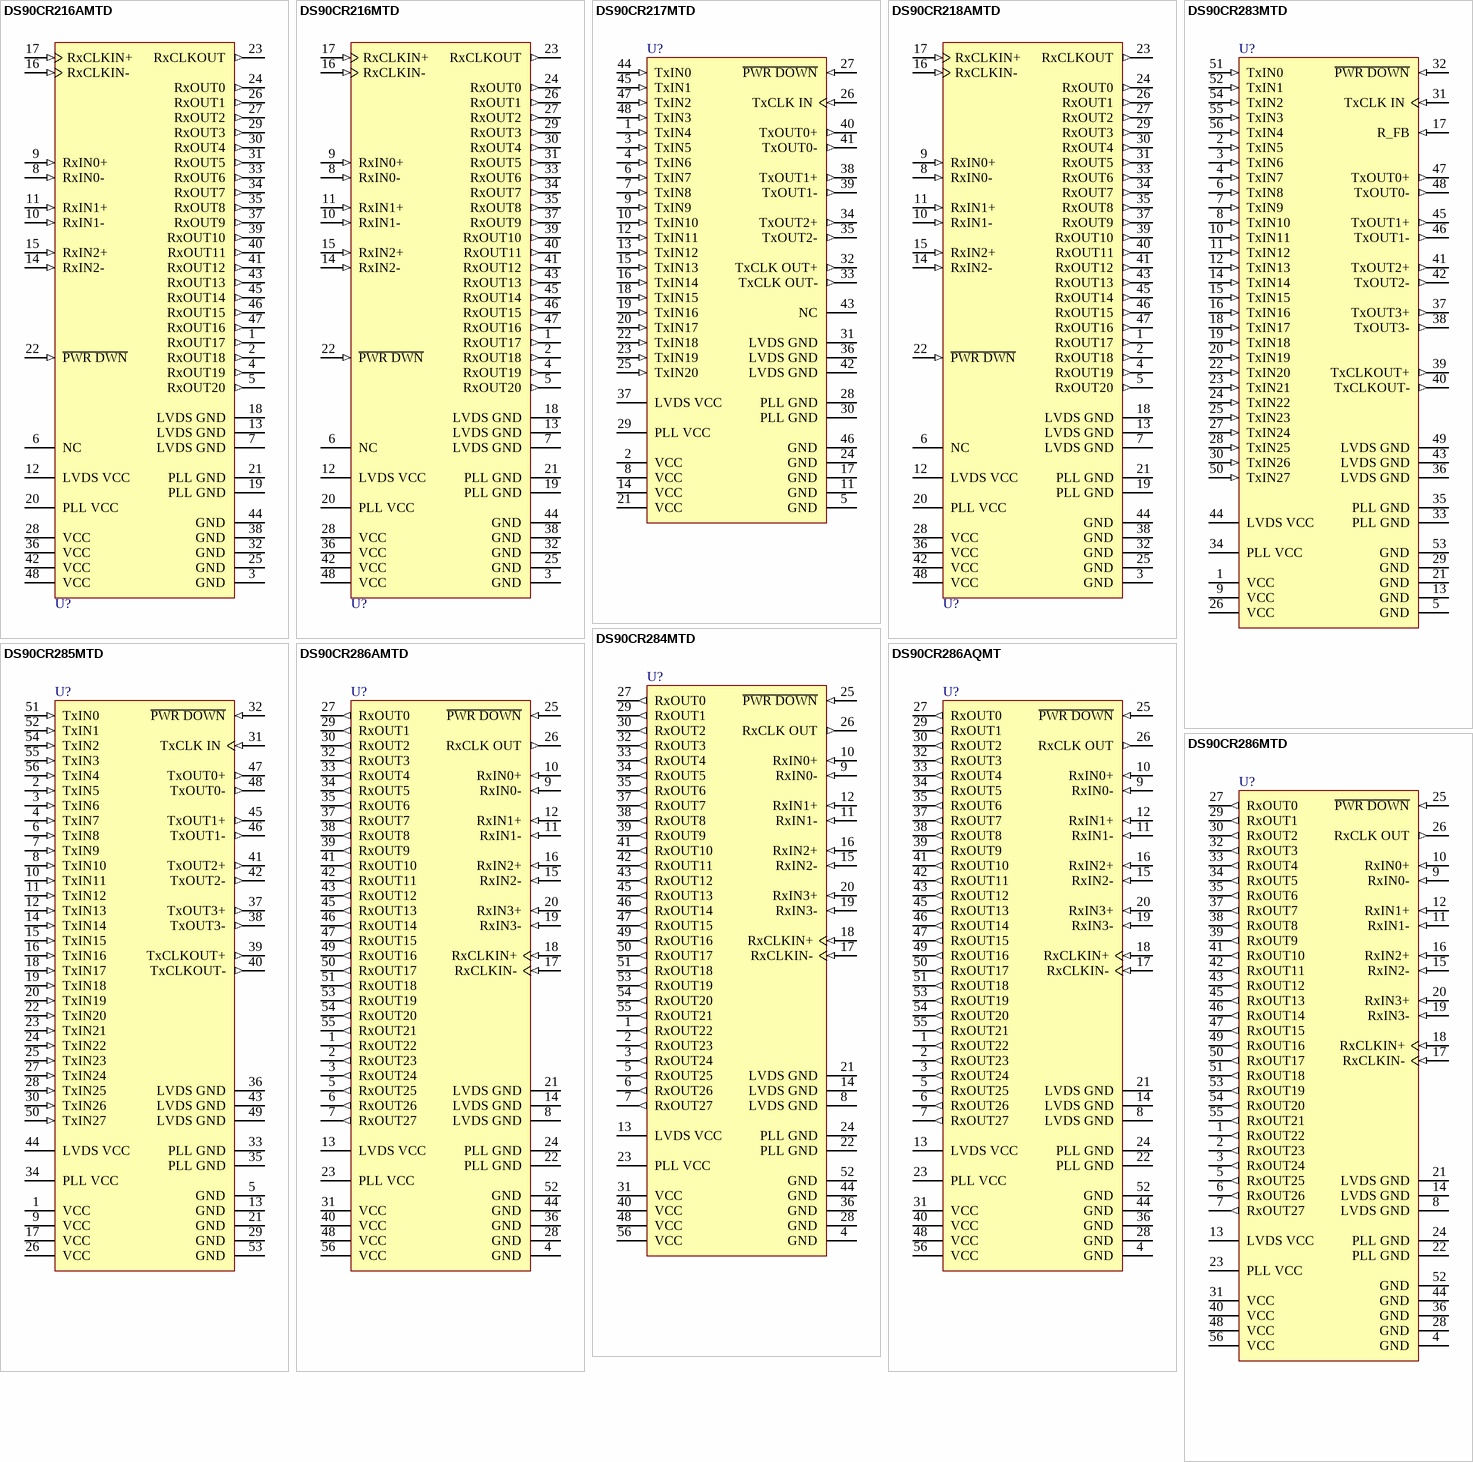
[diagram p16: symbols DS90CR216AMTD to DS90CR286MTD]

## DS90CR216AMTD
designator U?
+3.3V Rising Edge Data Strobe LVDS Receiver 21-Bit Channel Link - 66 MHz; PartNumber: DS90CR216AMTD; Manufacturer: National Semiconductor; CompType: Interface IC; PackageTopMarking: NS2ZXYTT*DS90CR216AMTD*BBBBB; Published: 4-Dec-2008; DatasheetVersion: Jul-2004; PackageVersion: revE, Apr-2003; PackageReference: MTD48; Publisher: Altium Limited; PackageDescription: Molded TSSOP, Jedec, 12.5 x 6.1 x 0.9mm Body, 48 Lead, 0.50mm Pitch; RoHS: O; PinCount: 48; DigiKeyPartNumber: DS90CR216AMTD-ND; Code_JEDEC: MO-153-ED; ComponentLink1Description: DS90CR216A Datasheet; ComponentLink1URL: http://www.national.com/ds/DS/DS90CR216A.pdf; ComponentLink2Description: DS90CR216A Web Page; ComponentLink2URL: http://www.national.com/pf/DS/DS90CR216A.html; ComponentLink3Description: MTD48 Package Page; ComponentLink3URL: http://www.national.com/packaging/folders/mtd48.html
footprint MTD48_N (TSSOP, 48-Leads, Body 12.5x6.1mm, Pitch 0.5mm, IPC Medium Density)
footprint MTD48_L (TSSOP, 48-Leads, Body 12.5x6.1mm, Pitch 0.5mm, IPC High Density)
footprint MTD48_M (TSSOP, 48-Leads, Body 12.5x6.1mm, Pitch 0.5mm, IPC Low Density)
pins: 1 RxOUT17 (out), 2 RxOUT18 (out), 3 GND (power), 4 RxOUT19 (out), 5 RxOUT20 (out), 6 NC, 7 LVDS GND (power), 8 RxIN0- (in), 9 RxIN0+ (in), 10 RxIN1- (in), 11 RxIN1+ (in), 12 LVDS VCC (power), 13 LVDS GND (power), 14 RxIN2- (in), 15 RxIN2+ (in), 16 RxCLKIN- (in), 17 RxCLKIN+ (in), 18 LVDS GND (power), 19 PLL GND (power), 20 PLL VCC (power), 21 PLL GND (power), 22 ~{PWR DWN} (in), 23 RxCLKOUT (out), 24 RxOUT0 (out), 25 GND (power), 26 RxOUT1 (out), 27 RxOUT2 (out), 28 VCC (power), 29 RxOUT3 (out), 30 RxOUT4 (out), 31 RxOUT5 (out), 32 GND (power), 33 RxOUT6 (out), 34 RxOUT7 (out), 35 RxOUT8 (out), 36 VCC (power), 37 RxOUT9 (out), 38 GND (power), 39 RxOUT10 (out), 40 RxOUT11 (out), 41 RxOUT12 (out), 42 VCC (power), 43 RxOUT13 (out), 44 GND (power), 45 RxOUT14 (out), 46 RxOUT15 (out), 47 RxOUT16 (out), 48 VCC (power)

## DS90CR216MTD
designator U?
+3.3V Rising Edge Data Strobe LVDS 21-Bit Channel Link - 66 MHz; PartNumber: DS90CR216MTD; Manufacturer: National Semiconductor; CompType: Interface IC; PackageTopMarking: NS2ZXYTT*DS90CR216MTD*BBBBB; Published: 4-Dec-2008; DatasheetVersion: Aug-2005; PackageVersion: revE, Apr-2003; PackageReference: MTD48; Publisher: Altium Limited; PackageDescription: Molded TSSOP, Jedec, 12.5 x 6.1 x 0.9mm Body, 48 Lead, 0.50mm Pitch; RoHS: O; PinCount: 48; DigiKeyPartNumber: DS90CR216MTD-ND; Code_JEDEC: MO-153-ED; ComponentLink1Description: DS90CR216 Datasheet; ComponentLink1URL: http://www.national.com/ds/DS/DS90CR216.pdf; ComponentLink2Description: DS90CR216 Web Page; ComponentLink2URL: http://www.national.com/pf/DS/DS90CR216.html; ComponentLink3Description: MTD48 Package Page; ComponentLink3URL: http://www.national.com/packaging/folders/mtd48.html
footprint MTD48_N (TSSOP, 48-Leads, Body 12.5x6.1mm, Pitch 0.5mm, IPC Medium Density)
footprint MTD48_L (TSSOP, 48-Leads, Body 12.5x6.1mm, Pitch 0.5mm, IPC High Density)
footprint MTD48_M (TSSOP, 48-Leads, Body 12.5x6.1mm, Pitch 0.5mm, IPC Low Density)
pins: 1 RxOUT17 (out), 2 RxOUT18 (out), 3 GND (power), 4 RxOUT19 (out), 5 RxOUT20 (out), 6 NC, 7 LVDS GND (power), 8 RxIN0- (in), 9 RxIN0+ (in), 10 RxIN1- (in), 11 RxIN1+ (in), 12 LVDS VCC (power), 13 LVDS GND (power), 14 RxIN2- (in), 15 RxIN2+ (in), 16 RxCLKIN- (in), 17 RxCLKIN+ (in), 18 LVDS GND (power), 19 PLL GND (power), 20 PLL VCC (power), 21 PLL GND (power), 22 ~{PWR DWN} (in), 23 RxCLKOUT (out), 24 RxOUT0 (out), 25 GND (power), 26 RxOUT1 (out), 27 RxOUT2 (out), 28 VCC (power), 29 RxOUT3 (out), 30 RxOUT4 (out), 31 RxOUT5 (out), 32 GND (power), 33 RxOUT6 (out), 34 RxOUT7 (out), 35 RxOUT8 (out), 36 VCC (power), 37 RxOUT9 (out), 38 GND (power), 39 RxOUT10 (out), 40 RxOUT11 (out), 41 RxOUT12 (out), 42 VCC (power), 43 RxOUT13 (out), 44 GND (power), 45 RxOUT14 (out), 46 RxOUT15 (out), 47 RxOUT16 (out), 48 VCC (power)

## DS90CR217MTD
designator U?
+3.3V Rising Edge Data Strobe LVDS 21-Bit Channel Link Transmitter - 85 MHz; PartNumber: DS90CR217MTD; Manufacturer: National Semiconductor; CompType: Interface IC; PackageTopMarking: NS2ZXYTT*DS90CR217MTD*BBBBB; Published: 4-Dec-2008; DatasheetVersion: Oct-2006; PackageVersion: revE, Apr-2003; PackageReference: MTD48; Publisher: Altium Limited; PackageDescription: Molded TSSOP, Jedec, 12.5 x 6.1 x 0.9mm Body, 48 Lead, 0.50mm Pitch; RoHS: O; PinCount: 48; DigiKeyPartNumber: DS90CR217MTD-ND; Code_JEDEC: MO-153-ED; ComponentLink1Description: DS90CR217 Datasheet; ComponentLink1URL: http://www.national.com/ds/DS/DS90CR217.pdf; ComponentLink2Description: DS90CR217 Web Page; ComponentLink2URL: http://www.national.com/pf/DS/DS90CR217.html; ComponentLink3Description: MTD48 Package Page; ComponentLink3URL: http://www.national.com/packaging/folders/mtd48.html
footprint MTD48_N (TSSOP, 48-Leads, Body 12.5x6.1mm, Pitch 0.5mm, IPC Medium Density)
footprint MTD48_L (TSSOP, 48-Leads, Body 12.5x6.1mm, Pitch 0.5mm, IPC High Density)
footprint MTD48_M (TSSOP, 48-Leads, Body 12.5x6.1mm, Pitch 0.5mm, IPC Low Density)
pins: 1 TxIN4 (in), 2 VCC (power), 3 TxIN5 (in), 4 TxIN6 (in), 5 GND (power), 6 TxIN7 (in), 7 TxIN8 (in), 8 VCC (power), 9 TxIN9 (in), 10 TxIN10 (in), 11 GND (power), 12 TxIN11 (in), 13 TxIN12 (in), 14 VCC (power), 15 TxIN13 (in), 16 TxIN14 (in), 17 GND (power), 18 TxIN15 (in), 19 TxIN16 (in), 20 TxIN17 (in), 21 VCC (power), 22 TxIN18 (in), 23 TxIN19 (in), 24 GND (power), 25 TxIN20 (in), 26 TxCLK IN (in), 27 ~{PWR DOWN} (in), 28 PLL GND (power), 29 PLL VCC (power), 30 PLL GND (power), 31 LVDS GND (power), 32 TxCLK OUT+ (out), 33 TxCLK OUT- (out), 34 TxOUT2+ (out), 35 TxOUT2- (out), 36 LVDS GND (power), 37 LVDS VCC (power), 38 TxOUT1+ (out), 39 TxOUT1- (out), 40 TxOUT0+ (out), 41 TxOUT0- (out), 42 LVDS GND (power), 43 NC, 44 TxIN0 (in), 45 TxIN1 (in), 46 GND (power), 47 TxIN2 (in), 48 TxIN3 (in)

## DS90CR218AMTD
designator U?
+3.3V Rising Edge Data Strobe LVDS 21-Bit Channel Link Receiver - 85 MHz; PartNumber: DS90CR218AMTD; Manufacturer: National Semiconductor; CompType: Interface IC; PackageTopMarking: NSUZXYTT*DS90CR218AMTD*BBBBB; Published: 4-Dec-2008; DatasheetVersion: Oct-2006; PackageVersion: revE, Apr-2003; PackageReference: MTD48; Publisher: Altium Limited; PackageDescription: Molded TSSOP, Jedec, 12.5 x 6.1 x 0.9mm Body, 48 Lead, 0.50mm Pitch; RoHS: O; PinCount: 48; DigiKeyPartNumber: DS90CR218AMTD-ND; Code_JEDEC: MO-153-ED; ComponentLink1Description: DS90CR218A Datasheet; ComponentLink1URL: http://www.national.com/ds/DS/DS90CR218A.pdf; ComponentLink2Description: DS90CR218A Web Page; ComponentLink2URL: http://www.national.com/pf/DS/DS90CR218A.html; ComponentLink3Description: MTD48 Package Page; ComponentLink3URL: http://www.national.com/packaging/folders/mtd48.html
footprint MTD48_N (TSSOP, 48-Leads, Body 12.5x6.1mm, Pitch 0.5mm, IPC Medium Density)
footprint MTD48_L (TSSOP, 48-Leads, Body 12.5x6.1mm, Pitch 0.5mm, IPC High Density)
footprint MTD48_M (TSSOP, 48-Leads, Body 12.5x6.1mm, Pitch 0.5mm, IPC Low Density)
pins: 1 RxOUT17 (out), 2 RxOUT18 (out), 3 GND (power), 4 RxOUT19 (out), 5 RxOUT20 (out), 6 NC, 7 LVDS GND (power), 8 RxIN0- (in), 9 RxIN0+ (in), 10 RxIN1- (in), 11 RxIN1+ (in), 12 LVDS VCC (power), 13 LVDS GND (power), 14 RxIN2- (in), 15 RxIN2+ (in), 16 RxCLKIN- (in), 17 RxCLKIN+ (in), 18 LVDS GND (power), 19 PLL GND (power), 20 PLL VCC (power), 21 PLL GND (power), 22 ~{PWR DWN} (in), 23 RxCLKOUT (out), 24 RxOUT0 (out), 25 GND (power), 26 RxOUT1 (out), 27 RxOUT2 (out), 28 VCC (power), 29 RxOUT3 (out), 30 RxOUT4 (out), 31 RxOUT5 (out), 32 GND (power), 33 RxOUT6 (out), 34 RxOUT7 (out), 35 RxOUT8 (out), 36 VCC (power), 37 RxOUT9 (out), 38 GND (power), 39 RxOUT10 (out), 40 RxOUT11 (out), 41 RxOUT12 (out), 42 VCC (power), 43 RxOUT13 (out), 44 GND (power), 45 RxOUT14 (out), 46 RxOUT15 (out), 47 RxOUT16 (out), 48 VCC (power)

## DS90CR283MTD
designator U?
28-Bit Channel-Link - 66 MHz; PartNumber: DS90CR283MTD; Manufacturer: National Semiconductor; CompType: Interface IC; PackageTopMarking: NSUZXYTT*DS90CR283MTD*BBBBB; Published: 4-Dec-2008; DatasheetVersion: Jul-2001; PackageVersion: revD, Apr-2003; PackageReference: MTD56; Publisher: Altium Limited; PackageDescription: Molded TSSOP, Jedec, 14 x 6.1 x 0.9mm Body, 56 Lead, 0.50mm Pitch; RoHS: Y; PinCount: 56; DigiKeyPartNumber: DS90CR283MTD-ND; Code_IPC: TSSOP50P810-56; ComponentLink1Description: DS90CR283 Datasheet; ComponentLink1URL: http://www.national.com/ds/DS/DS90CR283.pdf; ComponentLink2Description: DS90CR283 Web Page; ComponentLink2URL: http://www.national.com/pf/DS/DS90CR283.html; ComponentLink3Description: MTD56 Package Page; ComponentLink3URL: http://www.national.com/packaging/folders/mtd56.html
footprint MTD56_N (TSSOP, 56-Leads, Body 14x6.1mm, Pitch 0.5mm, IPC Medium Density)
footprint MTD56_L (TSSOP, 56-Leads, Body 14x6.1mm, Pitch 0.5mm, IPC High Density)
footprint MTD56_M (TSSOP, 56-Leads, Body 14x6.1mm, Pitch 0.5mm, IPC Low Density)
pins: 1 VCC (power), 2 TxIN5 (in), 3 TxIN6 (in), 4 TxIN7 (in), 5 GND (power), 6 TxIN8 (in), 7 TxIN9 (in), 8 TxIN10 (in), 9 VCC (power), 10 TxIN11 (in), 11 TxIN12 (in), 12 TxIN13 (in), 13 GND (power), 14 TxIN14 (in), 15 TxIN15 (in), 16 TxIN16 (in), 17 R_FB (in), 18 TxIN17 (in), 19 TxIN18 (in), 20 TxIN19 (in), 21 GND (power), 22 TxIN20 (in), 23 TxIN21 (in), 24 TxIN22 (in), 25 TxIN23 (in), 26 VCC (power), 27 TxIN24 (in), 28 TxIN25 (in), 29 GND (power), 30 TxIN26 (in), 31 TxCLK IN (in), 32 ~{PWR DOWN} (in), 33 PLL GND (power), 34 PLL VCC (power), 35 PLL GND (power), 36 LVDS GND (power), 37 TxOUT3+ (out), 38 TxOUT3- (out), 39 TxCLKOUT+ (out), 40 TxCLKOUT- (out), 41 TxOUT2+ (out), 42 TxOUT2- (out), 43 LVDS GND (power), 44 LVDS VCC (power), 45 TxOUT1+ (out), 46 TxOUT1- (out), 47 TxOUT0+ (out), 48 TxOUT0- (out), 49 LVDS GND (power), 50 TxIN27 (in), 51 TxIN0 (in), 52 TxIN1 (in), 53 GND (power), 54 TxIN2 (in), 55 TxIN3 (in), 56 TxIN4 (in)

## DS90CR284MTD
designator U?
28-Bit Channel-Link - 66 MHz; PartNumber: DS90CR284MTD; Manufacturer: National Semiconductor; CompType: Interface IC; PackageTopMarking: NSUZXYTT*DS90CR284MTD*BBBBB; Published: 4-Dec-2008; DatasheetVersion: Jul-2001; PackageVersion: revD, Apr-2003; PackageReference: MTD56; Publisher: Altium Limited; PackageDescription: Molded TSSOP, Jedec, 14 x 6.1 x 0.9mm Body, 56 Lead, 0.50mm Pitch; RoHS: O; PinCount: 56; DigiKeyPartNumber: DS90CR284MTD-ND; Code_IPC: TSSOP50P810-56; ComponentLink1Description: DS90CR284 Datasheet; ComponentLink1URL: http://www.national.com/ds/DS/DS90CR284.pdf; ComponentLink2Description: DS90CR284 Web Page; ComponentLink2URL: http://www.national.com/pf/DS/DS90CR284.html; ComponentLink3Description: MTD56 Package Page; ComponentLink3URL: http://www.national.com/packaging/folders/mtd56.html
footprint MTD56_N (TSSOP, 56-Leads, Body 14x6.1mm, Pitch 0.5mm, IPC Medium Density)
footprint MTD56_L (TSSOP, 56-Leads, Body 14x6.1mm, Pitch 0.5mm, IPC High Density)
footprint MTD56_M (TSSOP, 56-Leads, Body 14x6.1mm, Pitch 0.5mm, IPC Low Density)
pins: 1 RxOUT22 (out), 2 RxOUT23 (out), 3 RxOUT24 (out), 4 GND (power), 5 RxOUT25 (out), 6 RxOUT26 (out), 7 RxOUT27 (out), 8 LVDS GND (power), 9 RxIN0- (in), 10 RxIN0+ (in), 11 RxIN1- (in), 12 RxIN1+ (in), 13 LVDS VCC (power), 14 LVDS GND (power), 15 RxIN2- (in), 16 RxIN2+ (in), 17 RxCLKIN- (in), 18 RxCLKIN+ (in), 19 RxIN3- (in), 20 RxIN3+ (in), 21 LVDS GND (power), 22 PLL GND (power), 23 PLL VCC (power), 24 PLL GND (power), 25 ~{PWR DOWN} (in), 26 RxCLK OUT (out), 27 RxOUT0 (out), 28 GND (power), 29 RxOUT1 (out), 30 RxOUT2 (out), 31 VCC (power), 32 RxOUT3 (out), 33 RxOUT4 (out), 34 RxOUT5 (out), 35 RxOUT6 (out), 36 GND (power), 37 RxOUT7 (out), 38 RxOUT8 (out), 39 RxOUT9 (out), 40 VCC (power), 41 RxOUT10 (out), 42 RxOUT11 (out), 43 RxOUT12 (out), 44 GND (power), 45 RxOUT13 (out), 46 RxOUT14 (out), 47 RxOUT15 (out), 48 VCC (power), 49 RxOUT16 (out), 50 RxOUT17 (out), 51 RxOUT18 (out), 52 GND (power), 53 RxOUT19 (out), 54 RxOUT20 (out), 55 RxOUT21 (out), 56 VCC (power)

## DS90CR285MTD
designator U?
+3.3V Rising Edge Data Strobe LVDS 28-Bit Channel - 66 MHz; PartNumber: DS90CR285MTD; Manufacturer: National Semiconductor; CompType: Interface IC; PackageTopMarking: NS2ZXYTT*DS90CR285MTD*BBBBB; Published: 4-Dec-2008; DatasheetVersion: Jul-2004; PackageVersion: revD, Apr-2003; PackageReference: MTD56; Publisher: Altium Limited; PackageDescription: Molded TSSOP, Jedec, 14 x 6.1 x 0.9mm Body, 56 Lead, 0.50mm Pitch; RoHS: O; PinCount: 56; DigiKeyPartNumber: DS90CR285MTD-ND; Code_IPC: TSSOP50P810-56; ComponentLink1Description: DS90CR285 Datasheet; ComponentLink1URL: http://www.national.com/ds/DS/DS90CR285.pdf; ComponentLink2Description: DS90CR285 Web Page; ComponentLink2URL: http://www.national.com/pf/DS/DS90CR285.html; ComponentLink3Description: MTD56 Package Page; ComponentLink3URL: http://www.national.com/packaging/folders/mtd56.html
footprint MTD56_N (TSSOP, 56-Leads, Body 14x6.1mm, Pitch 0.5mm, IPC Medium Density)
footprint MTD56_L (TSSOP, 56-Leads, Body 14x6.1mm, Pitch 0.5mm, IPC High Density)
footprint MTD56_M (TSSOP, 56-Leads, Body 14x6.1mm, Pitch 0.5mm, IPC Low Density)
pins: 1 VCC (power), 2 TxIN5 (in), 3 TxIN6 (in), 4 TxIN7 (in), 5 GND (power), 6 TxIN8 (in), 7 TxIN9 (in), 8 TxIN10 (in), 9 VCC (power), 10 TxIN11 (in), 11 TxIN12 (in), 12 TxIN13 (in), 13 GND (power), 14 TxIN14 (in), 15 TxIN15 (in), 16 TxIN16 (in), 17 VCC (power), 18 TxIN17 (in), 19 TxIN18 (in), 20 TxIN19 (in), 21 GND (power), 22 TxIN20 (in), 23 TxIN21 (in), 24 TxIN22 (in), 25 TxIN23 (in), 26 VCC (power), 27 TxIN24 (in), 28 TxIN25 (in), 29 GND (power), 30 TxIN26 (in), 31 TxCLK IN (in), 32 ~{PWR DOWN} (in), 33 PLL GND (power), 34 PLL VCC (power), 35 PLL GND (power), 36 LVDS GND (power), 37 TxOUT3+ (out), 38 TxOUT3- (out), 39 TxCLKOUT+ (out), 40 TxCLKOUT- (out), 41 TxOUT2+ (out), 42 TxOUT2- (out), 43 LVDS GND (power), 44 LVDS VCC (power), 45 TxOUT1+ (out), 46 TxOUT1- (out), 47 TxOUT0+ (out), 48 TxOUT0- (out), 49 LVDS GND (power), 50 TxIN27 (in), 51 TxIN0 (in), 52 TxIN1 (in), 53 GND (power), 54 TxIN2 (in), 55 TxIN3 (in), 56 TxIN4 (in)

## DS90CR286AMTD
designator U?
+3.3V Rising Edge Data Strobe LVDS Receiver 28-Bit Channel Link - 66 MHz; PartNumber: DS90CR286AMTD; Manufacturer: National Semiconductor; CompType: Interface IC; PackageTopMarking: NS2ZXYTT*DS90CR286AMTD*BBBBB; Published: 4-Dec-2008; DatasheetVersion: Jul-2004; PackageVersion: revD, Apr-2003; PackageReference: MTD56; Publisher: Altium Limited; PackageDescription: Molded TSSOP, Jedec, 14 x 6.1 x 0.9mm Body, 56 Lead, 0.50mm Pitch; RoHS: O; PinCount: 56; DigiKeyPartNumber: DS90CR286AMTD-ND; Code_IPC: TSSOP50P810-56; ComponentLink1Description: DS90CR286A Datasheet; ComponentLink1URL: http://www.national.com/ds/DS/DS90CR286A.pdf; ComponentLink2Description: DS90CR286A Web Page; ComponentLink2URL: http://www.national.com/pf/DS/DS90CR286A.html; ComponentLink3Description: MTD56 Package Page; ComponentLink3URL: http://www.national.com/packaging/folders/mtd56.html
footprint MTD56_N (TSSOP, 56-Leads, Body 14x6.1mm, Pitch 0.5mm, IPC Medium Density)
footprint MTD56_L (TSSOP, 56-Leads, Body 14x6.1mm, Pitch 0.5mm, IPC High Density)
footprint MTD56_M (TSSOP, 56-Leads, Body 14x6.1mm, Pitch 0.5mm, IPC Low Density)
pins: 1 RxOUT22 (out), 2 RxOUT23 (out), 3 RxOUT24 (out), 4 GND (power), 5 RxOUT25 (out), 6 RxOUT26 (out), 7 RxOUT27 (out), 8 LVDS GND (power), 9 RxIN0- (in), 10 RxIN0+ (in), 11 RxIN1- (in), 12 RxIN1+ (in), 13 LVDS VCC (power), 14 LVDS GND (power), 15 RxIN2- (in), 16 RxIN2+ (in), 17 RxCLKIN- (in), 18 RxCLKIN+ (in), 19 RxIN3- (in), 20 RxIN3+ (in), 21 LVDS GND (power), 22 PLL GND (power), 23 PLL VCC (power), 24 PLL GND (power), 25 ~{PWR DOWN} (in), 26 RxCLK OUT (out), 27 RxOUT0 (out), 28 GND (power), 29 RxOUT1 (out), 30 RxOUT2 (out), 31 VCC (power), 32 RxOUT3 (out), 33 RxOUT4 (out), 34 RxOUT5 (out), 35 RxOUT6 (out), 36 GND (power), 37 RxOUT7 (out), 38 RxOUT8 (out), 39 RxOUT9 (out), 40 VCC (power), 41 RxOUT10 (out), 42 RxOUT11 (out), 43 RxOUT12 (out), 44 GND (power), 45 RxOUT13 (out), 46 RxOUT14 (out), 47 RxOUT15 (out), 48 VCC (power), 49 RxOUT16 (out), 50 RxOUT17 (out), 51 RxOUT18 (out), 52 GND (power), 53 RxOUT19 (out), 54 RxOUT20 (out), 55 RxOUT21 (out), 56 VCC (power)

## DS90CR286AQMT
designator U?
+3.3V Rising Edge Data Strobe LVDS Receiver 28-Bit Channel Link - 66 MHz; PartNumber: DS90CR286AQMT; Manufacturer: National Semiconductor; CompType: Interface IC; PackageTopMarking: NSUZXYTT*DS90CR286AQ*MT; Published: 4-Dec-2008; DatasheetVersion: Jul-2004; PackageVersion: revD, Apr-2003; PackageReference: MTD56; Publisher: Altium Limited; RoHS: Y; PinCount: 56; Code_IPC: TSSOP50P810-56; ComponentLink1Description: DS90CR286A Datasheet; ComponentLink1URL: http://www.national.com/ds/DS/DS90CR286A.pdf; ComponentLink2Description: DS90CR286A Web Page; ComponentLink2URL: http://www.national.com/pf/DS/DS90CR286A.html; ComponentLink3Description: MTD56 Package Page; ComponentLink3URL: http://www.national.com/packaging/folders/mtd56.html
footprint MTD56_N (TSSOP, 56-Leads, Body 14x6.1mm, Pitch 0.5mm, IPC Medium Density)
footprint MTD56_L (TSSOP, 56-Leads, Body 14x6.1mm, Pitch 0.5mm, IPC High Density)
footprint MTD56_M (TSSOP, 56-Leads, Body 14x6.1mm, Pitch 0.5mm, IPC Low Density)
pins: 1 RxOUT22 (out), 2 RxOUT23 (out), 3 RxOUT24 (out), 4 GND (power), 5 RxOUT25 (out), 6 RxOUT26 (out), 7 RxOUT27 (out), 8 LVDS GND (power), 9 RxIN0- (in), 10 RxIN0+ (in), 11 RxIN1- (in), 12 RxIN1+ (in), 13 LVDS VCC (power), 14 LVDS GND (power), 15 RxIN2- (in), 16 RxIN2+ (in), 17 RxCLKIN- (in), 18 RxCLKIN+ (in), 19 RxIN3- (in), 20 RxIN3+ (in), 21 LVDS GND (power), 22 PLL GND (power), 23 PLL VCC (power), 24 PLL GND (power), 25 ~{PWR DOWN} (in), 26 RxCLK OUT (out), 27 RxOUT0 (out), 28 GND (power), 29 RxOUT1 (out), 30 RxOUT2 (out), 31 VCC (power), 32 RxOUT3 (out), 33 RxOUT4 (out), 34 RxOUT5 (out), 35 RxOUT6 (out), 36 GND (power), 37 RxOUT7 (out), 38 RxOUT8 (out), 39 RxOUT9 (out), 40 VCC (power), 41 RxOUT10 (out), 42 RxOUT11 (out), 43 RxOUT12 (out), 44 GND (power), 45 RxOUT13 (out), 46 RxOUT14 (out), 47 RxOUT15 (out), 48 VCC (power), 49 RxOUT16 (out), 50 RxOUT17 (out), 51 RxOUT18 (out), 52 GND (power), 53 RxOUT19 (out), 54 RxOUT20 (out), 55 RxOUT21 (out), 56 VCC (power)

## DS90CR286MTD
designator U?
+3.3V Rising Edge Data Strobe LVDS 28-Bit Channel - 66 MHz; PartNumber: DS90CR286MTD; Manufacturer: National Semiconductor; CompType: Interface IC; PackageTopMarking: NS2ZXYTT*DS90CR286MTD*BBBBB; Published: 4-Dec-2008; DatasheetVersion: Jul-2004; PackageVersion: revD, Apr-2003; PackageReference: MTD56; Publisher: Altium Limited; PackageDescription: Molded TSSOP, Jedec, 14 x 6.1 x 0.9mm Body, 56 Lead, 0.50mm Pitch; RoHS: O; PinCount: 56; DigiKeyPartNumber: DS90CR286MTD-ND; Code_IPC: TSSOP50P810-56; ComponentLink1Description: DS90CR286 Datasheet; ComponentLink1URL: http://www.national.com/ds/DS/DS90CR286.pdf; ComponentLink2Description: DS90CR286 Web Page; ComponentLink2URL: http://www.national.com/pf/DS/DS90CR286.html; ComponentLink3Description: MTD56 Package Page; ComponentLink3URL: http://www.national.com/packaging/folders/mtd56.html
footprint MTD56_N (TSSOP, 56-Leads, Body 14x6.1mm, Pitch 0.5mm, IPC Medium Density)
footprint MTD56_L (TSSOP, 56-Leads, Body 14x6.1mm, Pitch 0.5mm, IPC High Density)
footprint MTD56_M (TSSOP, 56-Leads, Body 14x6.1mm, Pitch 0.5mm, IPC Low Density)
pins: 1 RxOUT22 (out), 2 RxOUT23 (out), 3 RxOUT24 (out), 4 GND (power), 5 RxOUT25 (out), 6 RxOUT26 (out), 7 RxOUT27 (out), 8 LVDS GND (power), 9 RxIN0- (in), 10 RxIN0+ (in), 11 RxIN1- (in), 12 RxIN1+ (in), 13 LVDS VCC (power), 14 LVDS GND (power), 15 RxIN2- (in), 16 RxIN2+ (in), 17 RxCLKIN- (in), 18 RxCLKIN+ (in), 19 RxIN3- (in), 20 RxIN3+ (in), 21 LVDS GND (power), 22 PLL GND (power), 23 PLL VCC (power), 24 PLL GND (power), 25 ~{PWR DOWN} (in), 26 RxCLK OUT (out), 27 RxOUT0 (out), 28 GND (power), 29 RxOUT1 (out), 30 RxOUT2 (out), 31 VCC (power), 32 RxOUT3 (out), 33 RxOUT4 (out), 34 RxOUT5 (out), 35 RxOUT6 (out), 36 GND (power), 37 RxOUT7 (out), 38 RxOUT8 (out), 39 RxOUT9 (out), 40 VCC (power), 41 RxOUT10 (out), 42 RxOUT11 (out), 43 RxOUT12 (out), 44 GND (power), 45 RxOUT13 (out), 46 RxOUT14 (out), 47 RxOUT15 (out), 48 VCC (power), 49 RxOUT16 (out), 50 RxOUT17 (out), 51 RxOUT18 (out), 52 GND (power), 53 RxOUT19 (out), 54 RxOUT20 (out), 55 RxOUT21 (out), 56 VCC (power)

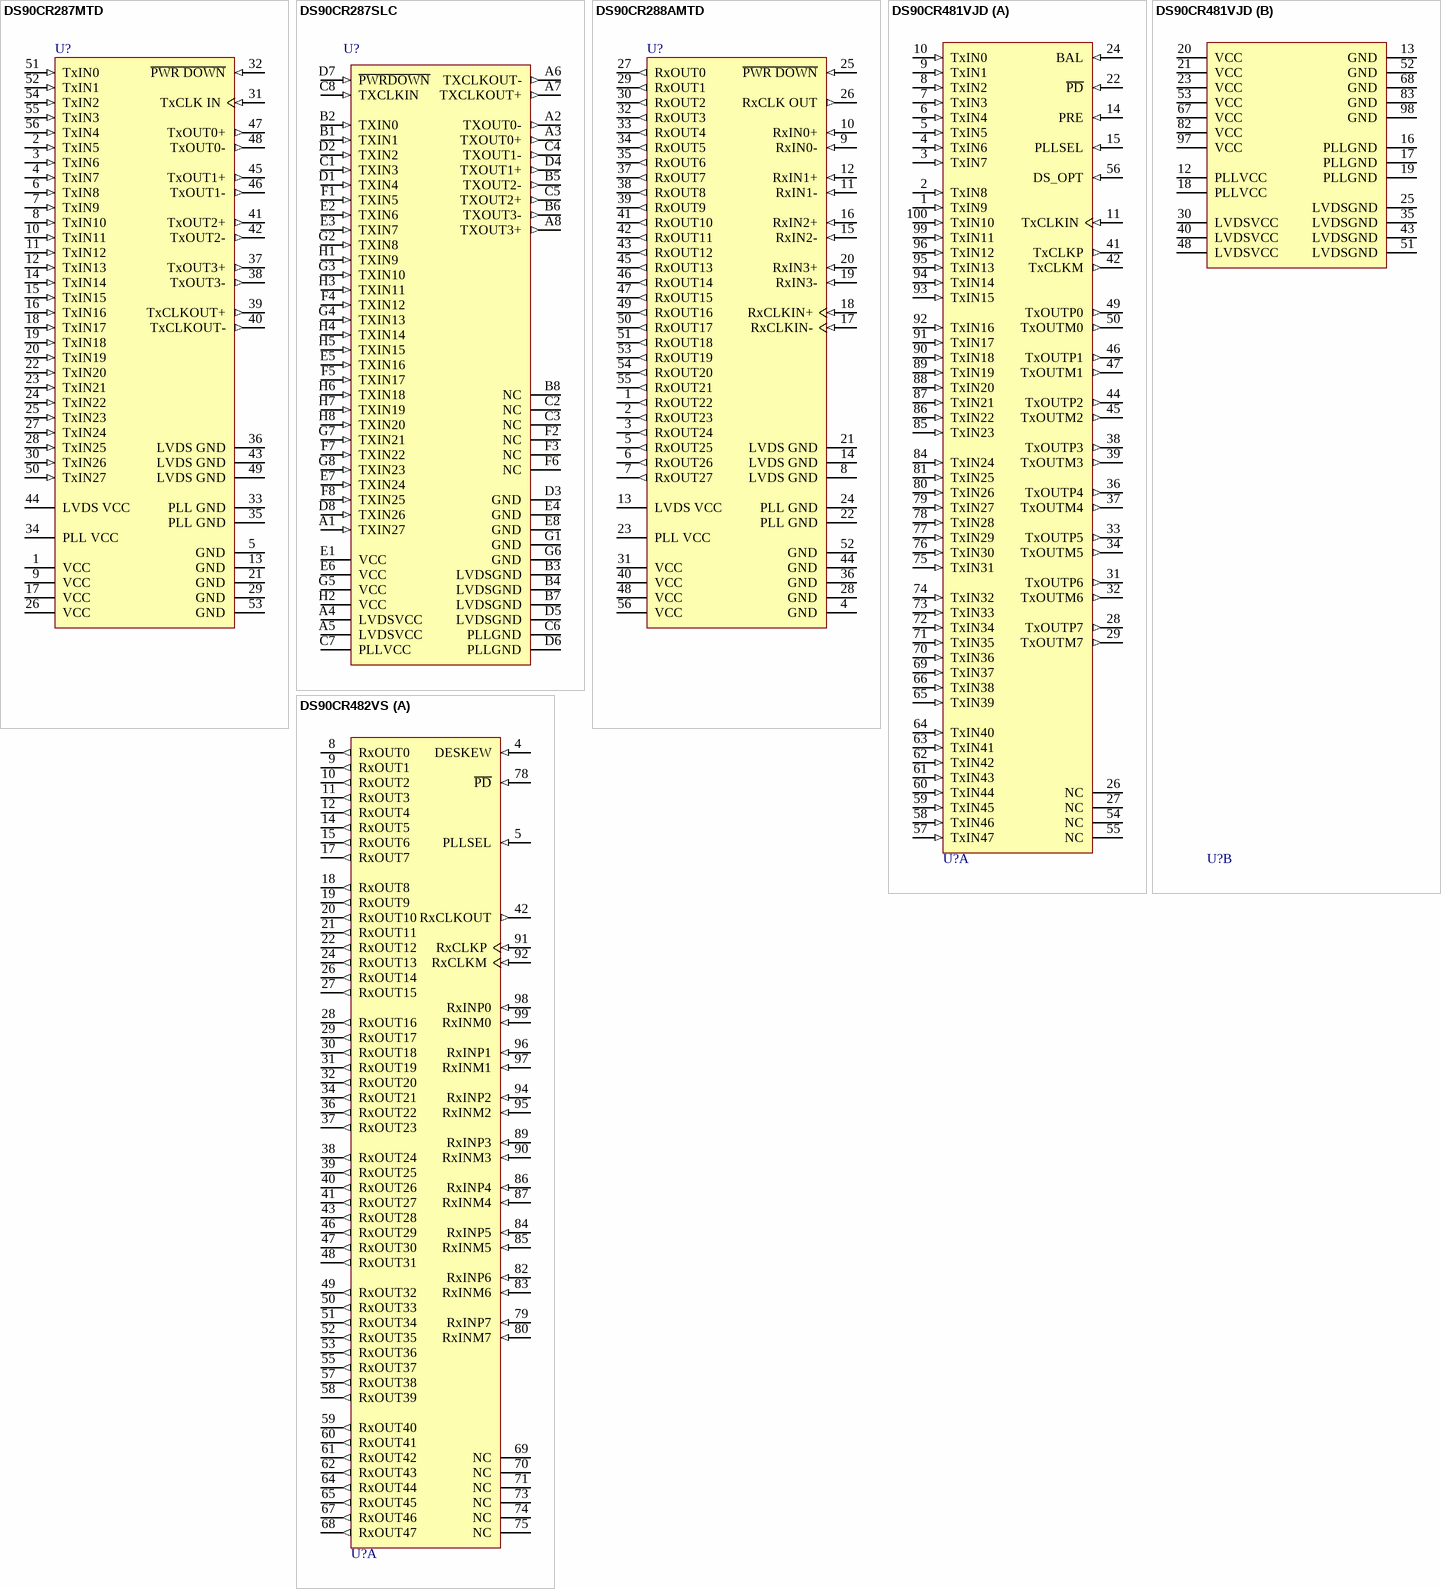
[diagram p17: symbols DS90CR287MTD to DS90CR482VS]

## DS90CR287MTD
designator U?
+3.3V Rising Edge Data Strobe LVDS 28-Bit Channel Link Transmitter - 85 MHz; PartNumber: DS90CR287MTD; Manufacturer: National Semiconductor; CompType: Interface IC; PackageTopMarking: NS2ZXYTT*DS90CR287MTD*BBBBB; Published: 4-Dec-2008; DatasheetVersion: Jul-2004; PackageVersion: revD, Apr-2003; PackageReference: MTD56; Publisher: Altium Limited; PackageDescription: Molded TSSOP, Jedec, 14 x 6.1 x 0.9mm Body, 56 Lead, 0.50mm Pitch; RoHS: O; PinCount: 56; DigiKeyPartNumber: DS90CR287MTD-ND; Code_IPC: TSSOP50P810-56; ComponentLink1Description: DS90CR287 Datasheet; ComponentLink1URL: http://www.national.com/ds/DS/DS90CR287.pdf; ComponentLink2Description: DS90CR287 Web Page; ComponentLink2URL: http://www.national.com/pf/DS/DS90CR287.html; ComponentLink3Description: MTD56 Package Page; ComponentLink3URL: http://www.national.com/packaging/folders/mtd56.html
footprint MTD56_N (TSSOP, 56-Leads, Body 14x6.1mm, Pitch 0.5mm, IPC Medium Density)
footprint MTD56_L (TSSOP, 56-Leads, Body 14x6.1mm, Pitch 0.5mm, IPC High Density)
footprint MTD56_M (TSSOP, 56-Leads, Body 14x6.1mm, Pitch 0.5mm, IPC Low Density)
pins: 1 VCC (power), 2 TxIN5 (in), 3 TxIN6 (in), 4 TxIN7 (in), 5 GND (power), 6 TxIN8 (in), 7 TxIN9 (in), 8 TxIN10 (in), 9 VCC (power), 10 TxIN11 (in), 11 TxIN12 (in), 12 TxIN13 (in), 13 GND (power), 14 TxIN14 (in), 15 TxIN15 (in), 16 TxIN16 (in), 17 VCC (power), 18 TxIN17 (in), 19 TxIN18 (in), 20 TxIN19 (in), 21 GND (power), 22 TxIN20 (in), 23 TxIN21 (in), 24 TxIN22 (in), 25 TxIN23 (in), 26 VCC (power), 27 TxIN24 (in), 28 TxIN25 (in), 29 GND (power), 30 TxIN26 (in), 31 TxCLK IN (in), 32 ~{PWR DOWN} (in), 33 PLL GND (power), 34 PLL VCC (power), 35 PLL GND (power), 36 LVDS GND (power), 37 TxOUT3+ (out), 38 TxOUT3- (out), 39 TxCLKOUT+ (out), 40 TxCLKOUT- (out), 41 TxOUT2+ (out), 42 TxOUT2- (out), 43 LVDS GND (power), 44 LVDS VCC (power), 45 TxOUT1+ (out), 46 TxOUT1- (out), 47 TxOUT0+ (out), 48 TxOUT0- (out), 49 LVDS GND (power), 50 TxIN27 (in), 51 TxIN0 (in), 52 TxIN1 (in), 53 GND (power), 54 TxIN2 (in), 55 TxIN3 (in), 56 TxIN4 (in)